# Altium footprint library Calcul8.PcbLib: 9 footprints
Each footprint in its own frame and in the unit in brackets; x right, y up, seen from the top. Pads: shape width x height; smd on the part's side, far side on the other; paste and mask are expansions set on the pad; w line width, h text height; cw(c..) or ccw(c..) is an arc to the next point about the centre after c.
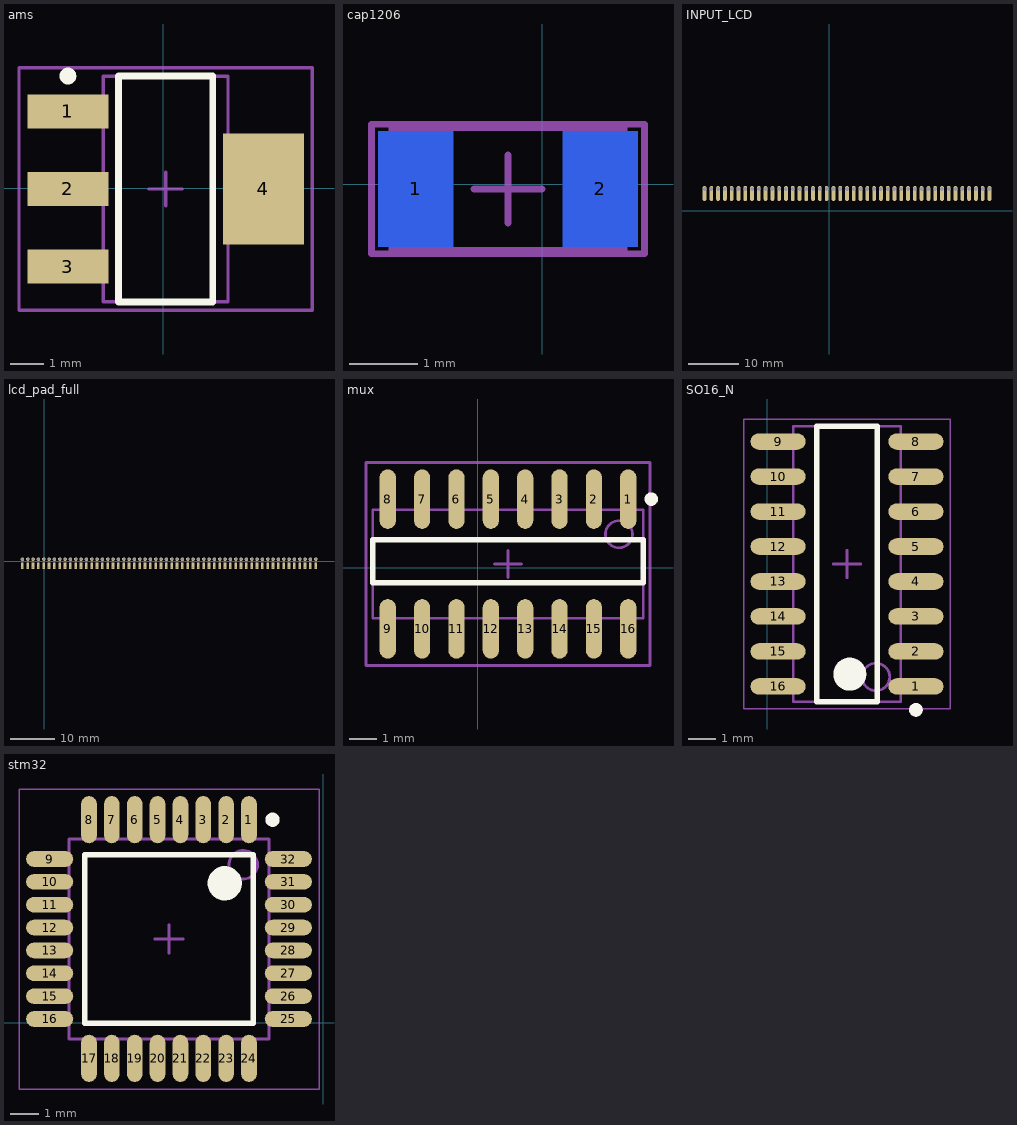
[diagram p0: the footprints below, top view; thin cyan lines are the x and y axes]

## ams [mm] "SOT223, 4-Leads, Body 6.5x3.5mm, Pitch 2.3mm, Lead Span 7mm, IPC Medium Density"
height 1.7
pads (4):
  rect 2.4x1 smd: 1(-2.831,2.285) 2(-2.831,-0.015) 3(-2.831,-2.315)
  rect 2.4x3.3 smd: 4(2.969,-0.015)
Top Overlay:
  circle w0.25: c-2.831,3.335 r0.125
  lines w0.2: -1.331,-3.365 -1.331,3.335 1.469,3.335 1.469,-3.365 -1.331,-3.365
Mechanical 13:
  lines w0.1: -1.781,-3.365 -1.781,3.335 1.919,3.335 1.919,-3.365 -1.781,-3.365
Mechanical 15:
  lines w0.1: -0.431,-0.015 0.569,-0.015 ; 0.069,-0.515 0.069,0.485 ; -4.281,-3.615 -4.281,3.585 4.419,3.585 4.419,-3.615 -4.281,-3.615
3D body: height 1.7, standoff 0, extent -1.781,-3.365 1.919,3.335

## cap1206 [mm]
pads (2):
  rect 1.1x1.7 smd far side: 1(-1.856,-0.067) 2(0.844,-0.067)
Bottom Overlay:
  lines w0.2: -0.906,-0.817 -0.106,-0.817 ; -0.906,0.683 -0.106,0.683
Mechanical 13:
  lines w0.1: -2.206,-0.967 1.194,-0.967 1.194,0.833 -2.206,0.833 -2.206,-0.967
Mechanical 15:
  lines w0.1: -1.006,-0.067 -0.006,-0.067 ; -0.506,-0.567 -0.506,0.433 ; -2.506,-1.017 1.494,-1.017 1.494,0.883 -2.506,0.883 -2.506,-1.017
3D body: height 1.3, standoff 0, extent -2.206,-0.967 1.194,0.833

## INPUT_LCD [mm]
pads (43):
  oval 0.75x3 hole 0.7 copper offset 0,-0.9: 4(-24.85,4.35) 5(-23.5,4.35) 6(-22.15,4.35) 7(-20.8,4.35) 8(-19.45,4.35) 9(-18.1,4.35) 11(-16.75,4.35) 12(-15.4,4.35) 13(-14.05,4.35) 15(-12.7,4.35) 16(-11.35,4.35) 17(-10,4.35) 19(-8.65,4.35) 20(-7.3,4.35) 21(-5.95,4.35) 23(-4.6,4.35) 24(-3.25,4.35) 25(-1.9,4.35) 26(-0.55,4.35) 27(0.8,4.35) 28(2.15,4.35) 29(3.5,4.35) 30(4.85,4.35) 31(6.2,4.35) 32(7.55,4.35) 33(8.9,4.35) 34(10.25,4.35) 35(11.6,4.35) 36(12.95,4.35) 37(14.3,4.35) 38(15.65,4.35) 39(17,4.35) 40(18.35,4.35) 41(19.7,4.35) 42(21.05,4.35) 43(22.4,4.35) 44(23.75,4.35) 45(25.1,4.35) 46(26.45,4.35) 47(27.8,4.35) 48(29.15,4.35) 49(30.5,4.35) 50(31.85,4.35)

## lcd_pad_full [mm]
pads (112):
  rect 0.6x1.5 hole 0.4 copper offset 0,0.3: 1(-4.975,-1.35) 2(-3.775,-1.35) 3(-2.575,-1.35) 4(-1.375,-1.35) 5(-0.175,-1.35) 6(1.025,-1.35) 7(2.225,-1.35) 8(3.425,-1.35) 9(4.625,-1.35) 10(5.825,-1.35) 11(7.025,-1.35) 12(8.225,-1.35) 13(9.425,-1.35) 14(10.625,-1.35) 15(11.825,-1.35) 16(13.025,-1.35) 17(14.225,-1.35) 18(15.425,-1.35) 19(16.625,-1.35) 20(17.825,-1.35) 21(19.025,-1.35) 22(20.225,-1.35) 23(21.425,-1.35) 24(22.625,-1.35) 25(23.825,-1.35) 26(25.025,-1.35) 27(26.225,-1.35) 28(27.425,-1.35) 29(28.625,-1.35) 30(29.825,-1.35) 31(31.025,-1.35) 32(32.225,-1.35) 33(33.425,-1.35) 34(34.625,-1.35) 35(35.825,-1.35) 36(37.025,-1.35) 37(38.225,-1.35) 38(39.425,-1.35) 39(40.625,-1.35) 40(41.825,-1.35) 41(43.025,-1.35) 42(44.225,-1.35) 43(45.425,-1.35) 44(46.625,-1.35) 45(47.825,-1.35) 46(49.025,-1.35) 47(50.225,-1.35) 48(51.425,-1.35) 49(52.625,-1.35) 50(53.825,-1.35) 51(55.025,-1.35) 52(56.225,-1.35) 53(57.425,-1.35) 54(58.625,-1.35) 55(59.825,-1.35) 56(61.025,-1.35)
  round 0.8 hole 0.6: 1(-4.95,0.45) 2(-3.75,0.45) 3(-2.55,0.45) 4(-1.35,0.45) 5(-0.15,0.45) 6(1.05,0.45) 7(2.25,0.45) 8(3.45,0.45) 9(4.65,0.45) 10(5.85,0.45) 11(7.05,0.45) 12(8.25,0.45) 13(9.45,0.45) 14(10.65,0.45) 15(11.85,0.45) 16(13.05,0.45) 17(14.25,0.45) 18(15.45,0.45) 19(16.65,0.45) 20(17.85,0.45) 21(19.05,0.45) 22(20.25,0.45) 23(21.45,0.45) 24(22.65,0.45) 25(23.85,0.45) 26(25.05,0.45) 27(26.25,0.45) 28(27.45,0.45) 29(28.65,0.45) 30(29.85,0.45) 31(31.05,0.45) 32(32.25,0.45) 33(33.45,0.45) 34(34.65,0.45) 35(35.85,0.45) 36(37.05,0.45) 37(38.25,0.45) 38(39.45,0.45) 39(40.65,0.45) 40(41.85,0.45) 41(43.05,0.45) 42(44.25,0.45) 43(45.45,0.45) 44(46.65,0.45) 45(47.85,0.45) 46(49.05,0.45) 47(50.25,0.45) 48(51.45,0.45) 49(52.65,0.45) 50(53.85,0.45) 51(55.05,0.45) 52(56.25,0.45) 53(57.45,0.45) 54(58.65,0.45) 55(59.85,0.45) 56(61.05,0.45)
Bottom Layer:
  lines w0.254: -4.925,-1.5 -4.925,0.275 ; -3.7,-1.5 -3.7,0.3 ; -2.5,-1.5 -2.5,0.25 ; -1.3,-1.5 -1.3,0.25 ; -0.1,-1.5 -0.1,0.225 ; 1.125,-1.5 1.125,0.275 ; 2.35,-1.5 2.35,0.3 ; 3.55,-1.5 3.55,0.25 ; 4.75,-1.5 4.75,0.25 ; 5.95,-1.5 5.95,0.225 ; 7.075,-1.5 7.075,0.275 ; 8.3,-1.5 8.3,0.3 ; 9.5,-1.5 9.5,0.25 ; 10.7,-1.5 10.7,0.25 ; 11.9,-1.5 11.9,0.225 ; 13.1,-1.5 13.1,0.275 ; 14.325,-1.5 14.325,0.3 ; 15.525,-1.5 15.525,0.25 ; 16.725,-1.5 16.725,0.25 ; 17.925,-1.5 17.925,0.225 ; 19.1,-1.5 19.1,0.275 ; 20.325,-1.5 20.325,0.3 ; 21.525,-1.5 21.525,0.25 ; 22.725,-1.5 22.725,0.25 ; 23.925,-1.5 23.925,0.225 ; 25.1,-1.5 25.1,0.275 ; 26.325,-1.5 26.325,0.3 ; 27.525,-1.5 27.525,0.25 ; 28.725,-1.5 28.725,0.25 ; 29.925,-1.5 29.925,0.225 ; 31,-1.5 31,0.275 ; 32.225,-1.5 32.225,0.3 ; 33.425,-1.5 33.425,0.25 ; 34.625,-1.5 34.625,0.25 ; 35.825,-1.5 35.825,0.225 ; 37.05,-1.5 37.05,0.275 ; 38.275,-1.5 38.275,0.3 ; 39.475,-1.5 39.475,0.25 ; 40.675,-1.5 40.675,0.25 ; 41.875,-1.5 41.875,0.225 ; 43,-1.5 43,0.275 ; 44.225,-1.5 44.225,0.3 ; 45.425,-1.5 45.425,0.25 ; 46.625,-1.5 46.625,0.25 ; 47.825,-1.5 47.825,0.225 ; 49.025,-1.5 49.025,0.275 ; 50.25,-1.5 50.25,0.3 ; 51.45,-1.5 51.45,0.25 ; 52.65,-1.5 52.65,0.25 ; 53.85,-1.5 53.85,0.225 ; 55.025,-1.5 55.025,0.275 ; 56.25,-1.5 56.25,0.3 ; 57.45,-1.5 57.45,0.25 ; 58.65,-1.5 58.65,0.25 ; 59.85,-1.5 59.85,0.225 ; 61.025,-1.5 61.025,0.275

## max32 [mm]

## mux [mm]
pads (16):
  oval 0.6x2.2 smd: 1(5.563,2.54) 2(4.293,2.54) 3(3.023,2.54) 4(1.753,2.54) 5(0.483,2.54) 6(-0.787,2.54) 7(-2.057,2.54) 8(-3.327,2.54) 9(-3.327,-2.26) 10(-2.057,-2.26) 11(-0.787,-2.26) 12(0.483,-2.26) 13(1.753,-2.26) 14(3.023,-2.26) 15(4.293,-2.26) 16(5.563,-2.26)
Top Overlay:
  circle w0.25: c6.413,2.54 r0.125
  lines w0.2: -3.882,-0.55 6.118,-0.55 6.118,1.04 -3.882,1.04 -3.882,-0.55
Mechanical 13:
  circle w0.1: c5.218,1.24 r0.5
  lines w0.1: -3.882,-1.86 6.118,-1.86 6.118,2.14 -3.882,2.14 -3.882,-1.86
Mechanical 15:
  lines w0.1: 0.618,0.14 1.618,0.14 ; 1.118,-0.36 1.118,0.64 ; -4.132,-3.61 6.368,-3.61 6.368,3.89 -4.132,3.89 -4.132,-3.61
3D body: height 1.75, standoff 0, extent -3.882,-1.86 6.118,2.14

## PCBComponent_1 [mm]

## SO16_N [mm] "SOIC, 16-Leads, Body 9.9x3.8mm, Pitch 1.27mm, IPC Medium Density"
height 1.75
pads (16):
  oval 2x0.6 smd: 1(5.389,6.069) 2(5.389,7.339) 3(5.389,8.609) 4(5.389,9.879) 5(5.389,11.149) 6(5.389,12.419) 7(5.389,13.689) 8(5.389,14.959) 9(0.389,14.959) 10(0.389,13.689) 11(0.389,12.419) 12(0.389,11.149) 13(0.389,9.879) 14(0.389,8.609) 15(0.389,7.339) 16(0.389,6.069)
Top Overlay:
  circle w0.25: c5.389,5.219 r0.125
  circle w0.6: c2.989,6.514 r0.3
  lines w0.2: 1.789,5.514 1.789,15.514 3.989,15.514 3.989,5.514 1.789,5.514
Mechanical 13:
  circle w0.1: c3.939,6.414 r0.5
  lines w0.1: 0.939,5.514 0.939,15.514 4.839,15.514 4.839,5.514 0.939,5.514
Mechanical 15:
  lines w0.05: -0.861,5.264 -0.861,15.764 6.639,15.764 6.639,5.264 -0.861,5.264
  lines w0.1: 2.389,10.514 3.389,10.514 ; 2.889,10.014 2.889,11.014
3D body: height 1.75, standoff 0.1, extent 0.939,5.514 4.839,15.514

## stm32 [mm]
pads (32):
  oval 0.55x1.65 smd: 1(-2.598,7.105) 2(-3.398,7.105) 3(-4.198,7.105) 4(-4.998,7.105) 5(-5.798,7.105) 6(-6.598,7.105) 7(-7.398,7.105) 8(-8.198,7.105) 17(-8.198,-1.245) 18(-7.398,-1.245) 19(-6.598,-1.245) 20(-5.798,-1.245) 21(-4.998,-1.245) 22(-4.198,-1.245) 23(-3.398,-1.245) 24(-2.598,-1.245)
  oval 1.65x0.55 smd: 9(-9.573,5.73) 10(-9.573,4.93) 11(-9.573,4.13) 12(-9.573,3.33) 13(-9.573,2.53) 14(-9.573,1.73) 15(-9.573,0.93) 16(-9.573,0.13) 25(-1.223,0.13) 26(-1.223,0.93) 27(-1.223,1.73) 28(-1.223,2.53) 29(-1.223,3.33) 30(-1.223,4.13) 31(-1.223,4.93) 32(-1.223,5.73)
Top Overlay:
  circle w0.25: c-1.773,7.105 r0.125
  circle w0.6: c-3.448,4.88 r0.3
  lines w0.2: -8.348,-0.02 -2.448,-0.02 -2.448,5.88 -8.348,5.88 -8.348,-0.02
Mechanical 13:
  circle w0.1: c-2.798,5.53 r0.5
  lines w0.1: -8.898,-0.57 -1.898,-0.57 -1.898,6.43 -8.898,6.43 -8.898,-0.57
Mechanical 15:
  lines w0.05: -10.648,-2.32 -0.148,-2.32 -0.148,8.18 -10.648,8.18 -10.648,-2.32
  lines w0.1: -5.898,2.93 -4.898,2.93 ; -5.398,2.43 -5.398,3.43
3D body: height 1.6, standoff 0.05, extent -8.898,-0.57 -1.898,6.43